# Altium schematic symbol library IC.SchLib: 7 symbols
Pins are listed as number, name and electrical type; pins without a type are passive.

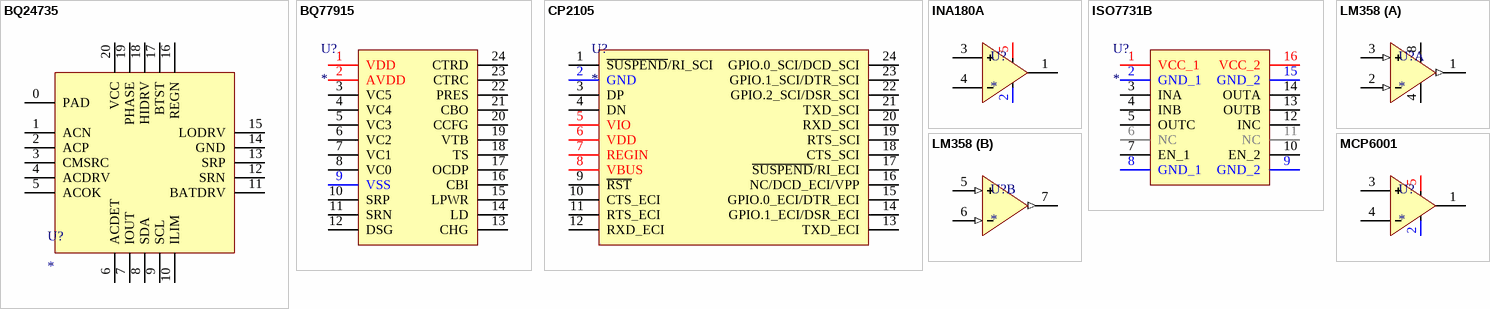
[diagram p0: symbols BQ24735 to MCP6001]

## BQ24735
designator U?
Charger IC Multi-Chemistry; Manufacturer Part No: BQ24735RGRT; Manufacturer: Texas Instruments; Mounting Technology: SMT; Package: VQFN-20
pins: 0 PAD, 1 ACN, 2 ACP, 3 CMSRC, 4 ACDRV, 5 ACOK, 6 ACDET, 7 IOUT, 8 SDA, 9 SCL, 10 ILIM, 11 BATDRV, 12 SRN, 13 SRP, 14 GND, 15 LODRV, 16 REGN, 17 BTST, 18 HIDRV, 19 PHASE, 20 VCC

## BQ77915
designator U?
Ultra-Low-Power Primary Protector
footprint TI_TSSOP-24_R
pins: 1 VDD, 2 AVDD, 3 VC5, 4 VC4, 5 VC3, 6 VC2, 7 VC1, 8 VC0, 9 VSS, 10 SRP, 11 SRN, 12 DSG, 13 CHG, 14 LD, 15 LPWR, 16 CBI, 17 OCDP, 18 TS, 19 VTB, 20 CCFG, 21 CBO, 22 PRES, 23 CTRC, 24 CTRD

## CP2105
designator U?
Single-Chip USB to Dual UART Bridge IC; Product Number: CP2105-F01-GM
pins: 1 ~{SUSPEND}/RI_SCI, 2 GND, 3 DP, 4 DN, 5 VIO, 6 VDD, 7 REGIN, 8 VBUS, 9 ~{RST}, 10 CTS_ECI, 11 RTS_ECI, 12 RXD_ECI, 13 TXD_ECI, 14 GPIO.1_ECI/DSR_ECI, 15 GPIO.0_ECI/DTR_ECI, 16 NC/DCD_ECI/VPP, 17 ~{SUSPEND}/RI_ECI, 18 CTS_SCI, 19 RTS_SCI, 20 RXD_SCI, 21 TXD_SCI, 22 GPIO.2_SCI/DSR_SCI, 23 GPIO.1_SCI/DTR_SCI, 24 GPIO.0_SCI/DCD_SCI

## INA180A
designator U?
Low- and High-Side Voltage Output, Current-Sense Amplifier; Supplier Link: https://www.chipdip.by/product/ina180a1idbvr
pins: 1 OUT, 2 GND, 3 INP, 4 INN, 5 VDD

## ISO7731B
designator U?
High-Speed Triple-Channel Digital Isolator; Package: SOIC-16 (Wide)
footprint SOIC-16WB (TI Wide SOIC-16)
pins: 1 VCC_1, 2 GND_1, 3 INA, 4 INB, 5 OUTC, 6 NC, 7 EN_1, 8 GND_1, 9 GND_2, 10 EN_2, 11 NC, 12 INC, 13 OUTB, 14 OUTA, 15 GND_2, 16 VCC_2

## LM358
designator U?
Low-Power Dual-Operational Amplifier
part A pins: 1 (out), 2 (in), 3 (in), 4 (power), 8 (power)
part B pins: 5 (in), 6 (in), 7 (out)

## MCP6001
designator U?
pins: 1 OUT, 2 GND, 3 INP, 4 INN, 5 VDD